# EAGLE library part JS5208 (library 1)
JS5208 Joystick SMT, 5-way switch Contact Rating: 0.02A @ 15VDC
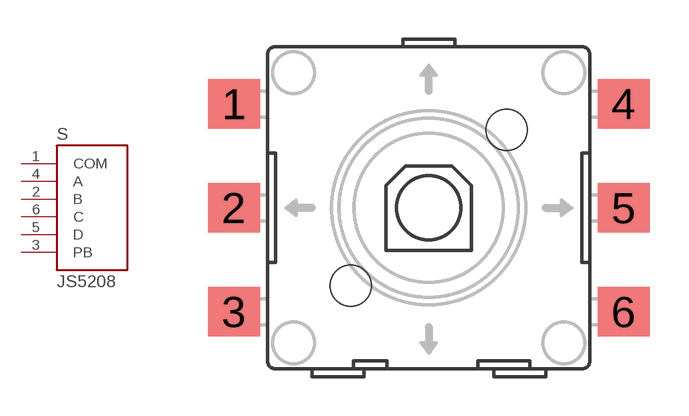
[diagram p15: symbol with the pads of JS5208; footprint JS5208]

Designator prefix S

## JS5208  [JS5208]
1  COM
2  B
3  PB
4  A
5  D
6  C

## Footprint JS5208 (pad centres in mm)
JS5208 SMT Joystick
smd 2 x 1.9: 1 -7.5,4; 2 -7.5,0; 3 -7.5,-4; 4 7.5,4; 5 7.5,0; 6 7.5,-4
hole 1.6 at 3,3
hole 1.6 at -3,-3